# Altium footprint library DF20160711.PcbLib: 86 footprints (part 3 of 6)
Each footprint in its own frame and in the unit in brackets; x right, y up, seen from the top. Pads: shape width x height; smd on the part's side, far side on the other; paste and mask are expansions set on the pad; w line width, h text height; cw(c..) or ccw(c..) is an arc to the next point about the centre after c.
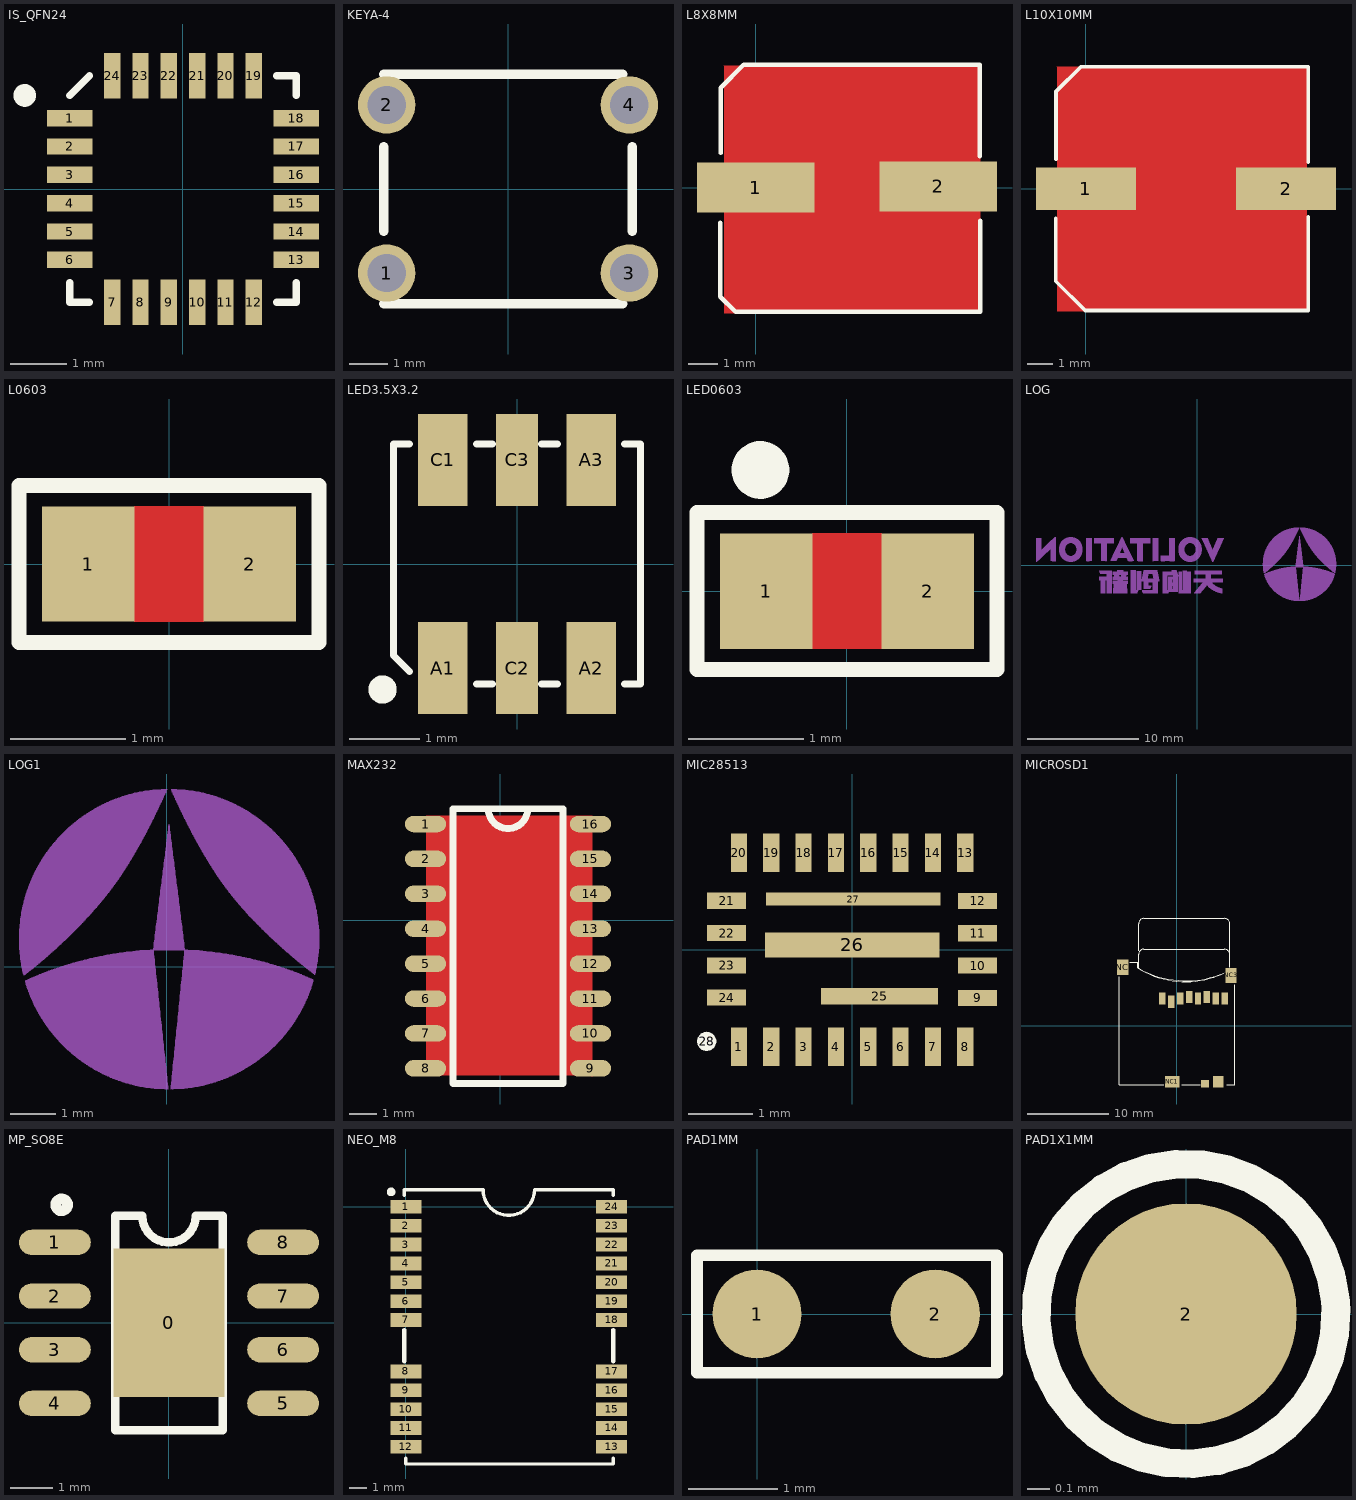
[diagram p2: the footprints below, top view; thin cyan lines are the x and y axes]

## IS_QFN24 [mm]
height 0.8
pads (24):
  rect 0.8x0.29 smd: 1(-2,1.25) 2(-2,0.75) 3(-2,0.25) 4(-2,-0.25) 5(-2,-0.75) 6(-2,-1.25) 13(2,-1.25) 14(2,-0.75) 15(2,-0.25) 16(2,0.25) 17(2,0.75) 18(2,1.25)
  rect 0.29x0.8 smd: 7(-1.25,-2) 8(-0.75,-2) 9(-0.25,-2) 10(0.25,-2) 11(0.75,-2) 12(1.25,-2) 19(1.25,2) 20(0.75,2) 21(0.25,2) 22(-0.25,2) 23(-0.75,2) 24(-1.25,2)
Top Overlay:
  circle w0.2: c-2.794,1.651 r0.1
  lines w0.127: -2,-1.65 -2,-2 -1.65,-2 ; -2,1.65 -1.65,2 ; 1.65,-2 2,-2 2,-1.65 ; 1.65,2 2,2 2,1.65

## KEYA-4 [mm]
pads (4):
  round 1.5 hole 1: 1(-3.175,-2.2) 2(-3.175,2.2) 3(3.175,-2.2) 4(3.175,2.2)
Top Overlay:
  lines w0.254: -3.25,-3 3,-3 ; -3.25,-1.1 -3.25,1.1 ; -3.25,3 3,3 ; 3.25,-1.1 3.25,1.1

## L8X8MM [mm]
pads (2):
  rect 4x1.7 smd: 1(0,0) 2(6.202,0.042)
Top Layer:
  pour cut-out: -1.093,4.161 -1.078,4.145 -1.078,-4.266 7.616,-4.266 7.631,-4.251 7.631,4.145
Top Overlay:
  lines w0.15: -1.207,-1.196 -1.207,-3.702 -0.686,-4.223 7.631,-4.223 7.631,-1.122 ; -1.196,1.18 -1.196,3.401 -0.417,4.18 7.62,4.18 7.62,1.069

## L10X10MM [mm]
pads (2):
  rect 4x1.7 smd: 1(0,0) 2(8,0)
Top Layer:
  pour cut-out: 8.83,4.886 8.83,-4.912 -1.157,-4.912 -1.157,4.854 -1.173,4.87
Top Overlay:
  lines w0.15: -1.207,-1.196 -1.207,-3.702 -0.032,-4.877 8.89,-4.877 8.89,-1.122 ; -1.196,1.18 -1.196,3.884 -0.203,4.877 8.89,4.877 8.89,1.069

## L0603 [mm]
height 0.8
pads (2):
  rect 0.8x1 smd: 1(-0.7,0) 2(0.7,0)
Top Layer:
  pour cut-out: -0.3,0.5 -0.3,-0.5 0.3,-0.5 0.3,0.5
Top Overlay:
  lines w0.13: -1.3,-0.68 1.3,-0.68 1.3,0.68 -1.3,0.68 -1.3,-0.68

## LED3.5X3.2 [mm]
pads (6):
  rect 0.7x1.3 smd: A1(-1.05,-1.475) A2(1.05,-1.475) A3(1.05,1.475) C1(-1.05,1.475)
  rect 0.6x1.3 smd: C2(0,-1.475) C3(0,1.475)
Top Overlay:
  circle w0.2: c-1.905,-1.778 r0.1
  lines w0.1: -1.524,-1.524 -1.75,-1.298 -1.75,1.7 -1.524,1.7 ; -0.576,-1.7 -0.35,-1.7 ; -0.576,1.7 -0.35,1.7 ; 0.35,-1.7 0.576,-1.7 ; 0.35,1.7 0.576,1.7 ; 1.524,-1.7 1.75,-1.7 1.75,1.7 1.524,1.7

## LED0603 [mm]
height 0.8
pads (2):
  rect 0.8x1 smd: 1(-0.7,0) 2(0.7,0)
Top Layer:
  pour cut-out: -0.3,0.5 -0.3,-0.5 0.3,-0.5 0.3,0.5
Top Overlay:
  circle w0.3: c-0.75,1.05 r0.1
  lines w0.13: -1.3,-0.68 -1.3,0.68 1.3,0.68 1.3,-0.68 -1.3,-0.68

## LOG [mm]
Bottom Overlay:
  drawing of 9993 lines, arcs and shapes, not listed

## LOG1 [mm]
Bottom Overlay:
  drawing of 2244 lines, arcs and shapes, not listed

## MAX232 [mm]
pads (16):
  oval 1.5x0.6 smd: 1(-2.726,3.498) 2(-2.726,2.228) 3(-2.726,0.958) 4(-2.726,-0.312) 5(-2.726,-1.582) 6(-2.726,-2.852) 7(-2.726,-4.122) 8(-2.726,-5.392) 9(3.274,-5.392) 10(3.274,-4.122) 11(3.274,-2.852) 12(3.274,-1.582) 13(3.274,-0.312) 14(3.274,0.958) 15(3.274,2.228) 16(3.274,3.498)
Top Layer:
  pour cut-out: -2.697,3.79 3.335,3.79 3.335,-5.697 3.272,-5.634 -2.697,-5.634
Top Overlay:
  lines w0.254: -0.444,4.053 ccw(c0.274,4.053) 0.993,4.053 ; -1.726,-5.947 2.274,-5.947 2.274,4.053 -1.726,4.053 -1.726,-5.947

## MIC28513 [mm]
pads (28):
  rect 0.25x0.6 smd: 1(-1.75,-1.5) 2(-1.25,-1.5) 3(-0.75,-1.5) 4(-0.25,-1.5) 5(0.25,-1.5) 6(0.75,-1.5) 7(1.25,-1.5) 8(1.75,-1.5) 13(1.75,1.5) 14(1.25,1.5) 15(0.75,1.5) 16(0.25,1.5) 17(-0.25,1.5) 18(-0.75,1.5) 19(-1.25,1.5) 20(-1.75,1.5)
  rect 0.6x0.25 smd: 9(1.941,-0.745) 10(1.941,-0.245) 11(1.941,0.255) 12(1.941,0.755) 21(-1.943,0.759) 22(-1.943,0.259) 23(-1.943,-0.241) 24(-1.943,-0.741)
  rect 1.81x0.26 smd: 25(0.425,-0.72)
  rect 2.7x0.39 smd: 26(0.001,0.074)
  rect 2.7x0.2 smd: 27(0.018,0.782)
  round 0.3 on Top Overlay: 28(-2.249,-1.417)

## MICROSD1 [mm]
pads (13):
  rect 0.8x1.5 smd: 1(-1.79,3.346) 2(-0.69,2.946) 3(0.41,3.346) 4(1.51,3.545) 5(2.61,3.346) 6(3.71,3.545) 7(4.81,3.346) 8(5.91,3.346)
  rect 1.4x1.9 smd: NC(-6.7,7.195) NC3(6.7,6.195)
  rect 1.8x1.4 smd: NC1(-0.6,-6.954)
  rect 1x0.9 smd: NC2(3.497,-7.195)
  rect 1.3x1.4 smd: NC2(5.1,-6.954)
Top Overlay:
  lines w0.008: -4.75,7.046 -4.75,8.805 cw(c-4.11,8.805) -4.11,9.446 ; -4.75,9.245 -4.75,12.605 cw(c-4.11,12.605) -4.11,13.245 ; -4.11,9.446 5.843,9.446 ; -4.11,13.245 5.843,13.245 cw(c5.843,12.538) 6.55,12.538 ; 5.843,9.445 cw(c5.843,8.738) 6.55,8.738 ; 6.55,7.233 6.55,8.738 ; 6.55,9.046 6.55,12.538
  lines w0.127: -7.15,5.545 -7.15,-7.354 ; -7.15,6.046 -7.15,-7.354 ; -5.842,7.845 -4.85,7.845 -4.85,7.146 ; -1.9,-7.354 -7.15,-7.354 ; -1.65,-7.354 -7.15,-7.354 ; 0.575,-7.354 2.862,-7.354 ; 5.611,6.418 cw(c1.044,16.325) -4.85,7.146 ; 5.874,6.524 cw(c1.124,17.396) -4.85,7.145 ; 6.15,-7.354 7.15,-7.354 ; 6.275,-7.354 7.15,-7.354 ; 7.15,5.074 7.15,-7.354

## MP_SO8E [mm]
height 1.3
pads (9):
  rect 2.62x3.51 smd: 0(0,0)
  oval 1.7x0.6 smd: 1(-2.7,1.905) 2(-2.7,0.635) 3(-2.7,-0.635) 4(-2.7,-1.905) 5(2.7,-1.905) 6(2.7,-0.635) 7(2.7,0.635) 8(2.7,1.905)
Top Overlay:
  circle w0.25: c-2.54,2.794 r0.14
  lines w0.2: -1.27,-2.54 1.27,-2.54 1.27,2.54 0.635,2.54 cw(c0,2.54) -0.635,2.54 -1.27,2.54 -1.27,-2.54

## NEO_M8 [mm]
pads (24):
  rect 1.8x0.8 smd: 1(0,0) 2(0,-1.1) 3(0,-2.2) 4(0,-3.3) 5(0,-4.4) 6(0,-5.5) 7(0,-6.6) 8(0,-9.6) 9(0,-10.7) 10(0,-11.8) 11(0,-12.9) 12(0,-14) 13(12,-14) 14(12,-12.9) 15(12,-11.8) 16(12,-10.7) 17(12,-9.6) 18(12,-6.6) 19(12,-5.5) 20(12,-4.4) 21(12,-3.3) 22(12,-2.2) 23(12,-1.1) 24(12,0)
Top Overlay:
  circle w0.254: c-0.862,0.873 r0.127
  lines w0.2: -0.1,0.662 -0.1,1 4.5,1 ccw(c6,1) 7.5,1 12.1,1 12.1,0.662 ; 0,-14.662 0,-15 12.1,-15 12.1,-14.662
  lines w0.254: -0.1,-9.013 -0.1,-7.184 ; 12.1,-9.013 12.1,-7.184

## PAD1MM [mm]
pads (2):
  round 1 smd: 1(0,0) 2(2,0)
Top Overlay:
  lines w0.13: -0.673,-0.66 2.692,-0.66 2.692,0.66 -0.673,0.66 -0.673,-0.66

## PAD1X1MM [mm]
pads (1):
  round 1 smd: 2(0,0)
Top Overlay:
  lines w0.13: 0.675,0.052 ccw(c0,0) 0.677,0.024